# EAGLE library part 114-00841-68 (library darnok_microsd)
Amphenol MicroSD Push Pull Data sheet is available at here <https://media.digikey.com/pdf/Data%20Sheets/Amphenol%20PDFs/114-00841-68.pdf>.
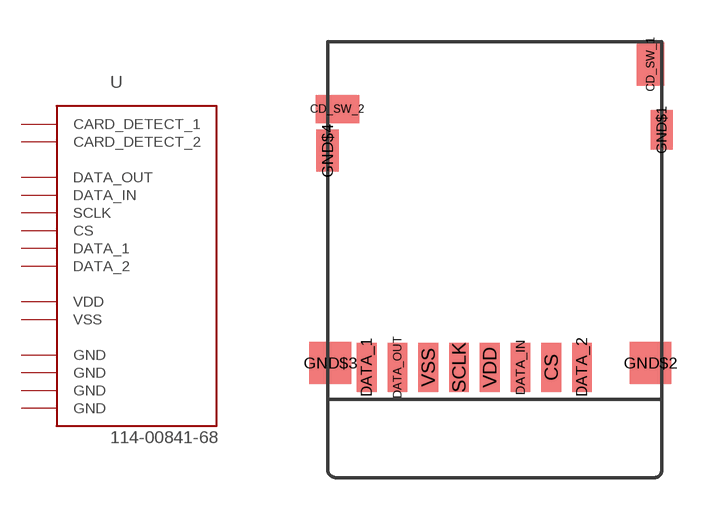
[diagram p0: symbol with the pads of 114-00841-68; footprint 114-00841-68]

Designator prefix -

## 114-00841-68  [114-00841-68]
CD_SW_1  CARD_DETECT_1  out
CD_SW_2  CARD_DETECT_2
CS  CS
DATA_1  DATA_1
DATA_2  DATA_2
DATA_IN  DATA_IN
DATA_OUT  DATA_OUT
GND$1  GND  pwr
GND$2  GND  pwr
GND$3  GND  pwr
GND$4  GND  pwr
SCLK  SCLK
VDD  VDD  pwr
VSS  VSS  pwr

## Footprint 114-00841-68 (pad centres in mm)
smd 1 x 1.55: CD_SW_1 5.57,4.96
smd 1.55 x 1: CD_SW_2 -5.63,3.36
smd 0.7 x 1.75: CS 2.02,-5.89; DATA_1 -4.58,-5.89; DATA_2 3.12,-5.89; DATA_IN 0.92,-5.89; DATA_OUT -3.48,-5.89; SCLK -1.28,-5.89; VDD -0.18,-5.89; VSS -2.38,-5.89
smd 0.8 x 1.4: GND$1 5.97,2.61
smd 1.5 x 1.5: GND$2 5.57,-5.74; GND$3 -5.88,-5.74
smd 0.8 x 1.5: GND$4 -5.98,1.86